# EAGLE library part ATSAM3S4 (library PiezoFFC)
http://ww1.microchip.com/downloads/en/DeviceDoc/Atmel-6500-32-bit-Cortex-M3-Microcontroller-SAM3S4-SAM3S2-SAM3S1_Datasheet.pdf
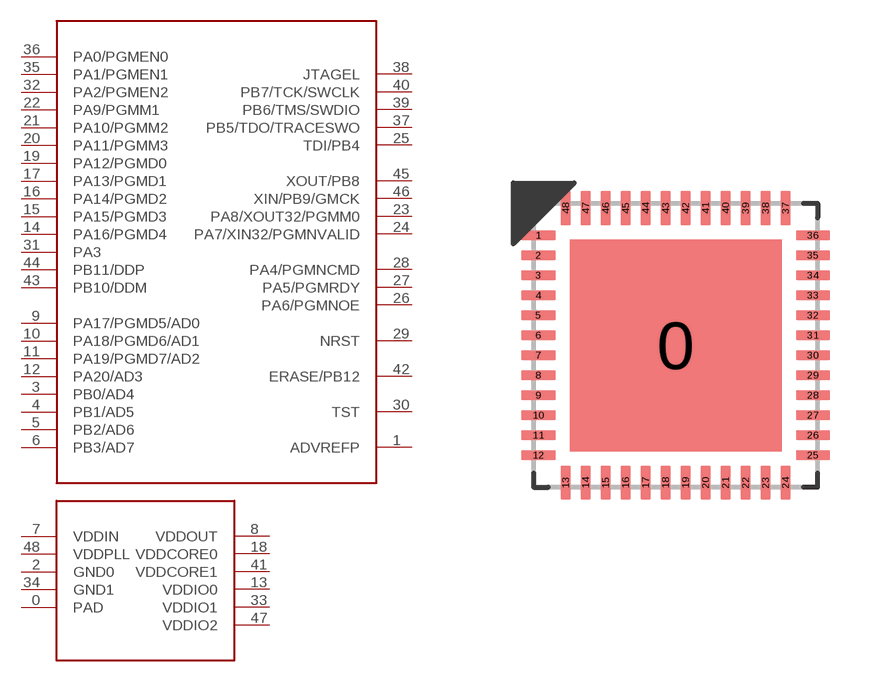
[diagram p5: symbol with the pads of QFN50P700X700X90-49N; footprint QFN50P700X700X90-49N]

Designator prefix -; gates G$1=ATSAM3S4AA-MU_GPIO G$2=ATSAM4N8AA-MU_PWR

## ATSAM3S4  [QFN50P700X700X90-49N]
0  G$2:PAD
1  G$1:ADVREFP
2  G$2:GND0
3  G$1:PB0/AD4
4  G$1:PB1/AD5
5  G$1:PB2/AD6
6  G$1:PB3/AD7
7  G$2:VDDIN
8  G$2:VDDOUT
9  G$1:PA17/PGMD5/AD0
10  G$1:PA18/PGMD6/AD1
11  G$1:PA19/PGMD7/AD2
12  G$1:PA20/AD3
13  G$2:VDDIO0
14  G$1:PA16/PGMD4
15  G$1:PA15/PGMD3
16  G$1:PA14/PGMD2
17  G$1:PA13/PGMD1
18  G$2:VDDCORE0
19  G$1:PA12/PGMD0
20  G$1:PA11/PGMM3
21  G$1:PA10/PGMM2
22  G$1:PA9/PGMM1
23  G$1:PA8/XOUT32/PGMM0
24  G$1:PA7/XIN32/PGMNVALID
25  G$1:TDI/PB4
26  G$1:PA6/PGMNOE
27  G$1:PA5/PGMRDY
28  G$1:PA4/PGMNCMD
29  G$1:NRST
30  G$1:TST
31  G$1:PA3
32  G$1:PA2/PGMEN2
33  G$2:VDDIO1
34  G$2:GND1
35  G$1:PA1/PGMEN1
36  G$1:PA0/PGMEN0
37  G$1:PB5/TDO/TRACESWO
38  G$1:JTAGEL
39  G$1:PB6/TMS/SWDIO
40  G$1:PB7/TCK/SWCLK
41  G$2:VDDCORE1
42  G$1:ERASE/PB12
43  G$1:PB10/DDM
44  G$1:PB11/DDP
45  G$1:XOUT/PB8
46  G$1:XIN/PB9/GMCK
47  G$2:VDDIO2
48  G$2:VDDPLL

## Footprint QFN50P700X700X90-49N (pad centres in mm)
smd 5.3 x 5.3: 0 0,0
smd 0.86 x 0.26: 1 -3.435,2.75; 2 -3.435,2.25; 3 -3.435,1.75; 4 -3.435,1.25; 5 -3.435,0.75; 6 -3.435,0.25; 7 -3.435,-0.25; 8 -3.435,-0.75; 9 -3.435,-1.25; 10 -3.435,-1.75; 11 -3.435,-2.25; 12 -3.435,-2.75; 25 3.435,-2.75; 26 3.435,-2.25; 27 3.435,-1.75; 28 3.435,-1.25; 29 3.435,-0.75; 30 3.435,-0.25; 31 3.435,0.25; 32 3.435,0.75; 33 3.435,1.25; 34 3.435,1.75; 35 3.435,2.25; 36 3.435,2.75
smd 0.26 x 0.86: 13 -2.75,-3.435; 14 -2.25,-3.435; 15 -1.75,-3.435; 16 -1.25,-3.435; 17 -0.75,-3.435; 18 -0.25,-3.435; 19 0.25,-3.435; 20 0.75,-3.435; 21 1.25,-3.435; 22 1.75,-3.435; 23 2.25,-3.435; 24 2.75,-3.435; 37 2.75,3.435; 38 2.25,3.435; 39 1.75,3.435; 40 1.25,3.435; 41 0.75,3.435; 42 0.25,3.435; 43 -0.25,3.435; 44 -0.75,3.435; 45 -1.25,3.435; 46 -1.75,3.435; 47 -2.25,3.435; 48 -2.75,3.435